# EAGLE library part TB62725 (library led-seg)
8-bit Constant-Current LED Driver with Operating Voltage of 3.3 V
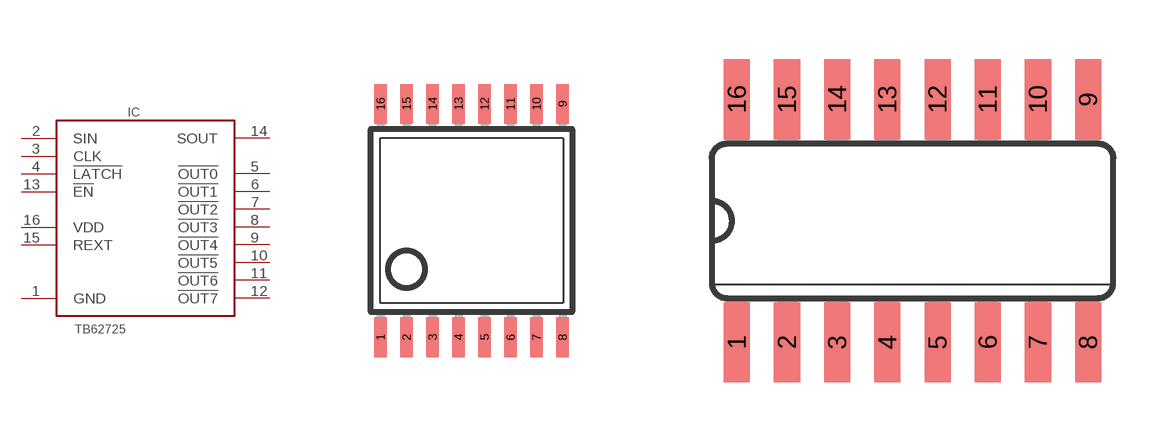
[diagram p12: symbol with the pads of TSSOP16; footprints TSSOP16, SO16]

Designator prefix IC

## TB62725FN  [TSSOP16]
1  GND  pwr
2  SIN  in
3  CLK  in
4  !LATCH  in
5  !OUT0  oc
6  !OUT1  oc
7  !OUT2  oc
8  !OUT3  oc
9  !OUT4  oc
10  !OUT5  oc
11  !OUT6  oc
12  !OUT7  oc
13  !EN  in
14  SOUT  out
15  REXT  pas
16  VDD  pwr

## TB62725F  [SO16]
Pads as for TSSOP16

## TB62725P  [DIL16]
Pads as for TSSOP16

## Footprint TSSOP16 (pad centres in mm)
Thin Shrink Small Outline Plastic TSSOP16
smd 0.305 x 0.991: 1 -2.275,-2.918; 2 -1.625,-2.918; 3 -0.975,-2.918; 4 -0.325,-2.918; 5 0.325,-2.918; 6 0.975,-2.918; 7 1.625,-2.918; 8 2.275,-2.918; 9 2.275,2.918; 10 1.625,2.918; 11 0.975,2.918; 12 0.325,2.918; 13 -0.325,2.918; 14 -0.975,2.918; 15 -1.625,2.918; 16 -2.275,2.918

## Footprint SO16 (pad centres in mm)
Small Outline Package
smd 0.66 x 2.032: 1 -4.445,-3.073; 2 -3.175,-3.073; 3 -1.905,-3.073; 4 -0.635,-3.073; 5 0.635,-3.073; 6 1.905,-3.073; 7 3.175,-3.073; 8 4.445,-3.073; 9 4.445,3.073; 10 3.175,3.073; 11 1.905,3.073; 12 0.635,3.073; 13 -0.635,3.073; 14 -1.905,3.073; 15 -3.175,3.073; 16 -4.445,3.073

## Footprint DIL16 (pad centres in mm)
Dual In Line Package
drill 0.8 long: 1 -8.89,-3.81; 2 -6.35,-3.81; 3 -3.81,-3.81; 4 -1.27,-3.81; 5 1.27,-3.81; 6 3.81,-3.81; 7 6.35,-3.81; 8 8.89,-3.81; 9 8.89,3.81; 10 6.35,3.81; 11 3.81,3.81; 12 1.27,3.81; 13 -1.27,3.81; 14 -3.81,3.81; 15 -6.35,3.81; 16 -8.89,3.81